# Altium schematic symbol library Logo.SchLib: 1 symbol
Pins are listed as number, name and electrical type; pins without a type are passive.

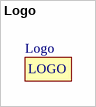
[diagram p0: symbol Logo]

## Logo
designator Logo  (value not drawn)  (graphical)
Mechanical, Logo; Component Type: Logo; Component Category: Mechanical
footprint Logo 1
text: LOGO